# EAGLE library part SOL_SMD (library SunOrbitLedSMD)
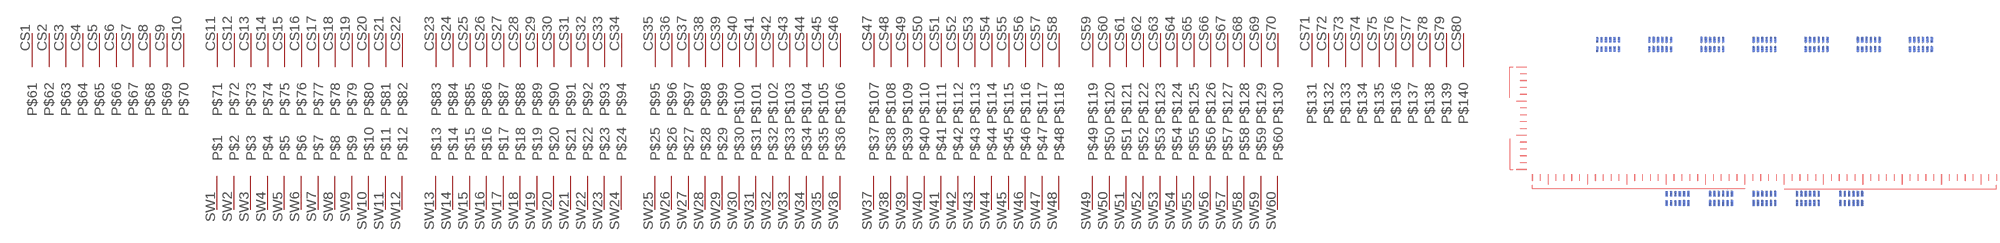
[diagram p0: symbol with the pads of FOOTPRINT; footprint FOOTPRINT]

Designator prefix -

## SOL_SMD  [FOOTPRINT]
CS1  P$61
CS2  P$62
CS3  P$63
CS4  P$64
CS5  P$65
CS6  P$66
CS7  P$67
CS8  P$68
CS9  P$69
CS10  P$70
CS11  P$71
CS12  P$72
CS13  P$73
CS14  P$74
CS15  P$75
CS16  P$76
CS17  P$77
CS18  P$78
CS19  P$79
CS20  P$80
CS21  P$81
CS22  P$82
CS23  P$83
CS24  P$84
CS25  P$85
CS26  P$86
CS27  P$87
CS28  P$88
CS29  P$89
CS30  P$90
CS31  P$91
CS32  P$92
CS33  P$93
CS34  P$94
CS35  P$95
CS36  P$96
CS37  P$97
CS38  P$98
CS39  P$99
CS40  P$100
CS41  P$101
CS42  P$102
CS43  P$103
CS44  P$104
CS45  P$105
CS46  P$106
CS47  P$107
CS48  P$108
CS49  P$109
CS50  P$110
CS51  P$111
CS52  P$112
CS53  P$113
CS54  P$114
CS55  P$115
CS56  P$116
CS57  P$117
CS58  P$118
CS59  P$119
CS60  P$120
CS61  P$121
CS62  P$122
CS63  P$123
CS64  P$124
CS65  P$125
CS66  P$126
CS67  P$127
CS68  P$128
CS69  P$129
CS70  P$130
CS71  P$131
CS72  P$132
CS73  P$133
CS74  P$134
CS75  P$135
CS76  P$136
CS77  P$137
CS78  P$138
CS79  P$139
CS80  P$140
SW1  P$1
SW2  P$2
SW3  P$3
SW4  P$4
SW5  P$5
SW6  P$6
SW7  P$7
SW8  P$8
SW9  P$9
SW10  P$10
SW11  P$11
SW12  P$12
SW13  P$13
SW14  P$14
SW15  P$15
SW16  P$16
SW17  P$17
SW18  P$18
SW19  P$19
SW20  P$20
SW21  P$21
SW22  P$22
SW23  P$23
SW24  P$24
SW25  P$25
SW26  P$26
SW27  P$27
SW28  P$28
SW29  P$29
SW30  P$30
SW31  P$31
SW32  P$32
SW33  P$33
SW34  P$34
SW35  P$35
SW36  P$36
SW37  P$37
SW38  P$38
SW39  P$39
SW40  P$40
SW41  P$41
SW42  P$42
SW43  P$43
SW44  P$44
SW45  P$45
SW46  P$46
SW47  P$47
SW48  P$48
SW49  P$49
SW50  P$50
SW51  P$51
SW52  P$52
SW53  P$53
SW54  P$54
SW55  P$55
SW56  P$56
SW57  P$57
SW58  P$58
SW59  P$59
SW60  P$60

## Footprint FOOTPRINT (pad centres in mm)
smd 1.27 x 3.175 bottom: CS1 -95.25,45.91; CS2 -95.25,40.45; CS3 -92.71,45.91; CS4 -92.71,40.45; CS5 -90.17,45.91; CS6 -90.17,40.45; CS7 -87.63,45.91; CS8 -87.63,40.45; CS9 -85.09,45.91; CS10 -85.09,40.45; CS11 -67.31,45.91; CS12 -67.31,40.45; CS13 -64.77,45.91; CS14 -64.77,40.45; CS15 -62.23,45.91; CS16 -62.23,40.45; CS17 -59.69,45.91; CS18 -59.69,40.45; CS19 -57.15,45.91; CS20 -57.15,40.45; CS21 -54.61,45.91; CS22 -54.61,40.45; CS23 -36.83,45.91; CS24 -36.83,40.45; CS25 -34.29,45.91; CS26 -34.29,40.45; CS27 -31.75,45.91; CS28 -31.75,40.45; CS29 -29.21,45.91; CS30 -29.21,40.45; CS31 -26.67,45.91; CS32 -26.67,40.45; CS33 -24.13,45.91; CS34 -24.13,40.45; CS35 -6.35,45.91; CS36 -6.35,40.45; CS37 -3.81,45.91; CS38 -3.81,40.45; CS39 -1.27,45.91; CS40 -1.27,40.45; CS41 1.27,45.91; CS42 1.27,40.45; CS43 3.81,45.91; CS44 3.81,40.45; CS45 6.35,45.91; CS46 6.35,40.45; CS47 24.13,45.91; CS48 24.13,40.45; CS49 26.67,45.91; CS50 26.67,40.45; CS51 29.21,45.91; CS52 29.21,40.45; CS53 31.75,45.91; CS54 31.75,40.45; CS55 34.29,45.91; CS56 34.29,40.45; CS57 36.83,45.91; CS58 36.83,40.45; CS59 54.61,45.91; CS60 54.61,40.45; CS61 57.15,45.91; CS62 57.15,40.45; CS63 59.69,45.91; CS64 59.69,40.45; CS65 62.23,45.91; CS66 62.23,40.45; CS67 64.77,45.91; CS68 64.77,40.45; CS69 67.31,45.91; CS70 67.31,40.45; CS71 85.09,45.91; CS72 85.09,40.45; CS73 87.63,45.91; CS74 87.63,40.45; CS75 90.17,45.91; CS76 90.17,40.45; CS77 92.71,45.91; CS78 92.71,40.45; CS79 95.25,45.91; CS80 95.25,40.45; NC_1 -97.79,40.45; NC_2 -97.79,45.91; NC_3 97.79,45.91; NC_4 97.79,40.45; SW1 -57.15,-44.26; SW2 -57.15,-49.721; SW3 -54.61,-44.26; SW4 -54.61,-49.721; SW5 -52.07,-44.26; SW6 -52.07,-49.721; SW7 -49.53,-44.26; SW8 -49.53,-49.721; SW9 -46.99,-44.26; SW10 -46.99,-49.721; SW11 -44.45,-44.26; SW12 -44.45,-49.721; SW13 -31.75,-44.26; SW14 -31.75,-49.721; SW15 -29.21,-44.26; SW16 -29.21,-49.721; SW17 -26.67,-44.26; SW18 -26.67,-49.721; SW19 -24.13,-44.26; SW20 -24.13,-49.721; SW21 -21.59,-44.26; SW22 -21.59,-49.721; SW23 -19.05,-44.26; SW24 -19.05,-49.721; SW25 -6.35,-44.26; SW26 -6.35,-49.721; SW27 -3.81,-44.26; SW28 -3.81,-49.721; SW29 -1.27,-44.26; SW30 -1.27,-49.721; SW31 1.27,-44.26; SW32 1.27,-49.721; SW33 3.81,-44.26; SW34 3.81,-49.721; SW35 6.35,-44.26; SW36 6.35,-49.721; SW37 19.05,-44.26; SW38 19.05,-49.721; SW39 21.59,-44.26; SW40 21.59,-49.721; SW41 24.13,-44.26; SW42 24.13,-49.721; SW43 26.67,-44.26; SW44 26.67,-49.721; SW45 29.21,-44.26; SW46 29.21,-49.721; SW47 31.75,-44.26; SW48 31.75,-49.721; SW49 44.45,-44.26; SW50 44.45,-49.721; SW51 46.99,-44.26; SW52 46.99,-49.721; SW53 49.53,-44.26; SW54 49.53,-49.721; SW55 52.07,-44.26; SW56 52.07,-49.721; SW57 54.61,-44.26; SW58 54.61,-49.721; SW59 57.15,-44.26; SW60 57.15,-49.721
smd 6 x 0.35: P$141 -142,-30; P$146 -142,-10; P$151 -142,10; P$156 -142,30
smd 4 x 0.35: P$142 -141,-26; P$143 -141,-22; P$144 -141,-18; P$145 -141,-14; P$147 -141,-6; P$148 -141,-2; P$149 -141,2; P$150 -141,6; P$152 -141,14; P$153 -141,18; P$154 -141,22; P$155 -141,26
smd 0.35 x 4: P$201 -135.7,-34.8; P$202 -131.1,-34.8; P$204 -121.9,-34.8; P$205 -117.3,-34.8; P$206 -112.7,-34.8; P$207 -108.1,-34.8; P$209 -98.9,-34.8; P$210 -94.3,-34.8; P$211 -89.7,-34.8; P$212 -85.1,-34.8; P$214 -75.9,-34.8; P$215 -71.3,-34.8; P$216 -66.7,-34.8; P$217 -62.1,-34.8; P$219 -52.9,-34.8; P$220 -48.3,-34.8; P$221 -43.7,-34.8; P$222 -39.1,-34.8; P$224 -29.9,-34.8; P$225 -25.3,-34.8; P$226 -20.7,-34.8; P$227 -16.1,-34.8; P$229 -6.9,-34.8; P$230 -2.3,-34.8; P$231 2.3,-34.8; P$232 6.9,-34.8; P$234 16.1,-34.8; P$235 20.7,-34.8; P$236 25.3,-34.8; P$237 29.9,-34.8; P$239 39.1,-34.8; P$240 43.7,-34.8; P$241 48.3,-34.8; P$242 52.9,-34.8; P$244 62.1,-34.8; P$245 66.7,-34.8; P$246 71.3,-34.8; P$247 75.9,-34.8; P$249 85.1,-34.8; P$250 89.7,-34.8; P$251 94.3,-34.8; P$252 98.9,-34.8; P$254 108.1,-34.8; P$255 112.7,-34.8; P$256 117.3,-34.8; P$257 121.9,-34.8; P$259 131.1,-34.8; P$260 135.7,-34.8
smd 0.35 x 6: P$203 -126.5,-35.8; P$208 -103.5,-35.8; P$213 -80.5,-35.8; P$218 -57.5,-35.8; P$223 -34.5,-35.8; P$228 -11.5,-35.8; P$233 11.5,-35.8; P$238 34.5,-35.8; P$243 57.5,-35.8; P$248 80.5,-35.8; P$253 103.5,-35.8; P$258 126.5,-35.8